# Altium integrated library Capacitor - Ceramic - Sumsung.IntLib: 1421 symbols (part 22 of 22)
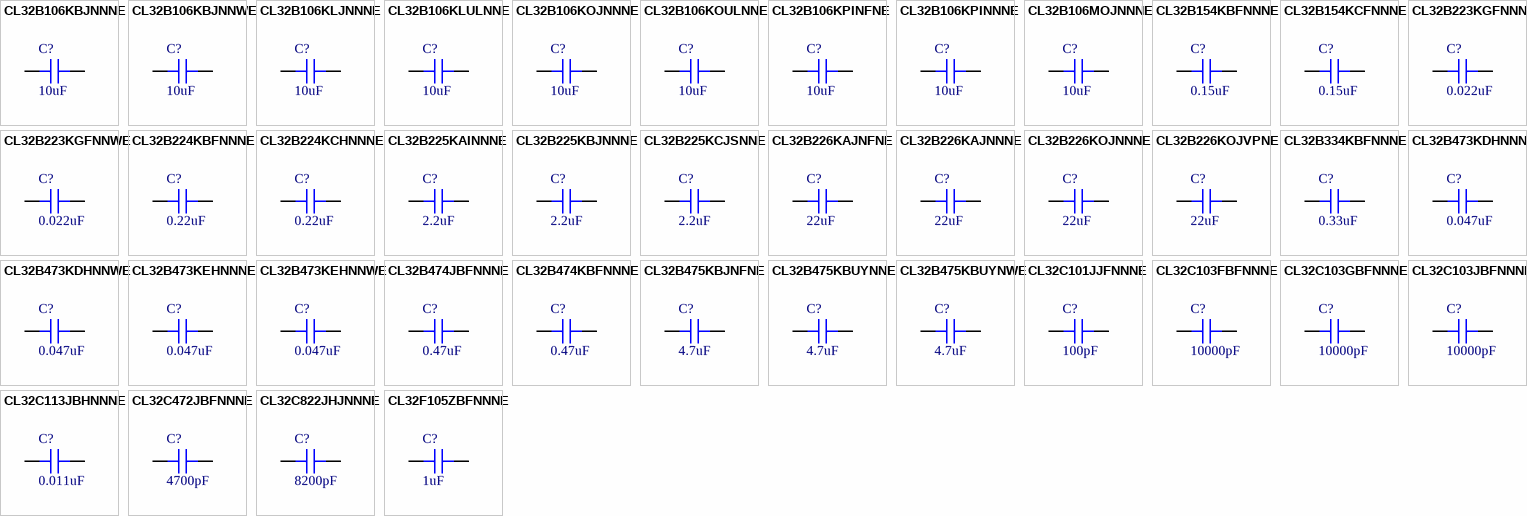
[diagram p56: symbols CL32B106KBJNNNE to CL32F105ZBFNNNE]

## CL32B475KBJNFNE
designator C?, comment 4.7uF
CAP CER 4.7UF 50V X7R 1210; Part Number: CL32B475KBJNFNE; Manufacturer: Samsung Electro-Mechanics America, Inc.; TemperatureRange: -55C ~ 125C; Tolerance: 10%; Value: 4.7uF; PartId: 19353; Supplier 1: Digi-Key; Supplier Part Number 1: 1276-3397-2-ND; ComponentLink1Description: Datasheet; ComponentLink1URL: http://www.samsungsem.com/kr/front/downloadcms.do?path=/kr/support/product-search/mlcc/__icsFiles/afieldfile/2014/11/05&fileName=C_CL32B475KBJNFNE.pdf; ComponentLink2Description: Digi-Key Listing; ComponentLink2URL: https://www.digikey.com/product-detail/en/samsung-electro-mechanics-america-inc/CL32B475KBJNFNE/1276-3397-2-ND/3889055; TemperatureCoefficient: X7R; Voltage: 50V; Price: 0.2813; Device Package: 1210 (3225 Metric)
footprint CAP 1210/3225 - 2.8MM
pins: 1, 2

## CL32B475KBUYNNE
designator C?, comment 4.7uF
CAP CER 4.7UF 50V X7R 1210; Part Number: CL32B475KBUYNNE; Manufacturer: Samsung Electro-Mechanics America, Inc.; TemperatureRange: -55C ~ 125C; Tolerance: 10%; Value: 4.7uF; PartId: 18557; Supplier 1: Digi-Key; Supplier Part Number 1: 1276-1292-2-ND; ComponentLink1Description: Datasheet; ComponentLink1URL: //media.digikey.com/pdf/Data%20Sheets/Samsung%20PDFs/CL32B475KBUYNNE_Spec.pdf; ComponentLink2Description: Digi-Key Listing; ComponentLink2URL: https://www.digikey.com/product-detail/en/samsung-electro-mechanics-america-inc/CL32B475KBUYNNE/1276-1292-2-ND/3886950; TemperatureCoefficient: X7R; Voltage: 50V; Price: 0.1618; Device Package: 1210 (3225 Metric)
footprint CAP 1210/3225 - 2.0MM
pins: 1, 2

## CL32B475KBUYNWE
designator C?, comment 4.7uF
CAP CER 4.7UF 50V X7R 1210; Part Number: CL32B475KBUYNWE; Manufacturer: Samsung Electro-Mechanics America, Inc.; TemperatureRange: -55C ~ 125C; Tolerance: 10%; Value: 4.7uF; PartId: 18588; Supplier 1: Digi-Key; Supplier Part Number 1: 1276-3343-2-ND; ComponentLink1Description: Datasheet; ComponentLink1URL: //media.digikey.com/pdf/Data%20Sheets/Samsung%20PDFs/MLCC_Catalog_2015.pdf; ComponentLink2Description: Digi-Key Listing; ComponentLink2URL: https://www.digikey.com/product-detail/en/samsung-electro-mechanics-america-inc/CL32B475KBUYNWE/1276-3343-2-ND/3889001; TemperatureCoefficient: X7R; Voltage: 50V; Price: 0.1718; Device Package: 1210 (3225 Metric)
footprint CAP 1210/3225 - 2.0MM
pins: 1, 2

## CL32C101JJFNNNE
designator C?, comment 100pF
CAP CER 100PF 2KV NP0 1210; Part Number: CL32C101JJFNNNE; Manufacturer: Samsung Electro-Mechanics America, Inc.; TemperatureRange: -55C ~ 125C; TemperatureCoefficient: C0G, NP0; Tolerance: 5%; Voltage: 2000V (2kV); Value: 100pF; PartId: 18326; Supplier 1: Digi-Key; Supplier Part Number 1: 1276-3344-2-ND; ComponentLink1Description: Datasheet; ComponentLink1URL: http://www.samsungsem.com/kr/support/product-search/mlcc/__icsFiles/afieldfile/2016/08/18/S_CL32C101JJFNNNE.pdf; ComponentLink2Description: Digi-Key Listing; ComponentLink2URL: https://www.digikey.com/product-detail/en/samsung-electro-mechanics-america-inc/CL32C101JJFNNNE/1276-3344-2-ND/3889002; Price: 0.2281; Device Package: 1210 (3225 Metric)
footprint CAP 1210/3225 - 1.6MM
pins: 1, 2

## CL32C103FBFNNNE
designator C?, comment 10000pF
CAP CER 10000PF 50V NP0 1210; Part Number: CL32C103FBFNNNE; Manufacturer: Samsung Electro-Mechanics America, Inc.; TemperatureRange: -55C ~ 125C; TemperatureCoefficient: C0G, NP0; Tolerance: 1%; Value: 10000pF; PartId: 18367; Supplier 1: Digi-Key; Supplier Part Number 1: 1276-3345-2-ND; ComponentLink1Description: Datasheet; ComponentLink1URL: http://www.samsungsem.com/kr/support/product-search/mlcc/__icsFiles/afieldfile/2016/08/18/S_CL32C103FBFNNNE.pdf; ComponentLink2Description: Digi-Key Listing; ComponentLink2URL: https://www.digikey.com/product-detail/en/samsung-electro-mechanics-america-inc/CL32C103FBFNNNE/1276-3345-2-ND/3889003; Voltage: 50V; Price: 0.9732; Device Package: 1210 (3225 Metric)
footprint CAP 1210/3225 - 1.6MM
pins: 1, 2

## CL32C103GBFNNNE
designator C?, comment 10000pF
CAP CER 10000PF 50V NP0 1210; Part Number: CL32C103GBFNNNE; Manufacturer: Samsung Electro-Mechanics America, Inc.; TemperatureRange: -55C ~ 125C; TemperatureCoefficient: C0G, NP0; Tolerance: 2%; Value: 10000pF; PartId: 18368; Supplier 1: Digi-Key; Supplier Part Number 1: 1276-3346-2-ND; ComponentLink1Description: Datasheet; ComponentLink1URL: http://www.samsungsem.com/kr/support/product-search/mlcc/__icsFiles/afieldfile/2016/08/18/S_CL32C103GBFNNNE.pdf; ComponentLink2Description: Digi-Key Listing; ComponentLink2URL: https://www.digikey.com/product-detail/en/samsung-electro-mechanics-america-inc/CL32C103GBFNNNE/1276-3346-2-ND/3889004; Voltage: 50V; Price: 0.9881; Device Package: 1210 (3225 Metric)
footprint CAP 1210/3225 - 1.6MM
pins: 1, 2

## CL32C103JBFNNNE
designator C?, comment 10000pF
CAP CER 10000PF 50V NP0 1210; Part Number: CL32C103JBFNNNE; Manufacturer: Samsung Electro-Mechanics America, Inc.; TemperatureRange: -55C ~ 125C; TemperatureCoefficient: C0G, NP0; Tolerance: 5%; Value: 10000pF; PartId: 18328; Supplier 1: Digi-Key; Supplier Part Number 1: 1276-3347-2-ND; ComponentLink1Description: Datasheet; ComponentLink1URL: http://www.samsungsem.com/kr/support/product-search/mlcc/__icsFiles/afieldfile/2016/08/18/S_CL32C103JBFNNNE.pdf; ComponentLink2Description: Digi-Key Listing; ComponentLink2URL: https://www.digikey.com/product-detail/en/samsung-electro-mechanics-america-inc/CL32C103JBFNNNE/1276-3347-2-ND/3889005; Voltage: 50V; Price: 0.2975; Device Package: 1210 (3225 Metric)
footprint CAP 1210/3225 - 1.6MM
pins: 1, 2

## CL32C113JBHNNNE
designator C?, comment 0.011uF
CAP CER 0.011UF 50V NP0 1210; Part Number: CL32C113JBHNNNE; Manufacturer: Samsung Electro-Mechanics America, Inc.; TemperatureRange: -55C ~ 125C; TemperatureCoefficient: C0G, NP0; Tolerance: 5%; Value: 0.011uF; PartId: 18436; Supplier 1: Digi-Key; Supplier Part Number 1: 1276-3348-2-ND; ComponentLink1Description: Datasheet; ComponentLink1URL: //media.digikey.com/pdf/Data%20Sheets/Samsung%20PDFs/MLCC_Catalog_2015.pdf; ComponentLink2Description: Digi-Key Listing; ComponentLink2URL: https://www.digikey.com/product-detail/en/samsung-electro-mechanics-america-inc/CL32C113JBHNNNE/1276-3348-2-ND/3889006; Voltage: 50V; Price: 0.1573; Device Package: 1210 (3225 Metric)
footprint CAP 1210/3225 - 1.8MM
pins: 1, 2

## CL32C472JBFNNNE
designator C?, comment 4700pF
CAP CER 4700PF 50V NP0 1210; Part Number: CL32C472JBFNNNE; Manufacturer: Samsung Electro-Mechanics America, Inc.; TemperatureRange: -55C ~ 125C; TemperatureCoefficient: C0G, NP0; Tolerance: 5%; Value: 4700pF; PartId: 18338; Supplier 1: Digi-Key; Supplier Part Number 1: 1276-3351-2-ND; ComponentLink1Description: Datasheet; ComponentLink1URL: http://www.samsungsem.com/kr/support/product-search/mlcc/__icsFiles/afieldfile/2016/08/18/S_CL32C472JBFNNNE.pdf; ComponentLink2Description: Digi-Key Listing; ComponentLink2URL: https://www.digikey.com/product-detail/en/samsung-electro-mechanics-america-inc/CL32C472JBFNNNE/1276-3351-2-ND/3889009; Voltage: 50V; Price: 0.1757; Device Package: 1210 (3225 Metric)
footprint CAP 1210/3225 - 1.6MM
pins: 1, 2

## CL32C822JHJNNNE
designator C?, comment 8200pF
CAP CER 8200PF 630V NP0 1210; Part Number: CL32C822JHJNNNE; Manufacturer: Samsung Electro-Mechanics America, Inc.; TemperatureRange: -55C ~ 125C; TemperatureCoefficient: C0G, NP0; Tolerance: 5%; Value: 8200pF; PartId: 19363; Supplier 1: Digi-Key; Supplier Part Number 1: 1276-3398-2-ND; ComponentLink1Description: Datasheet; ComponentLink1URL: //media.digikey.com/pdf/Data%20Sheets/Samsung%20PDFs/MLCC_Catalog_2015.pdf; ComponentLink2Description: Digi-Key Listing; ComponentLink2URL: https://www.digikey.com/product-detail/en/samsung-electro-mechanics-america-inc/CL32C822JHJNNNE/1276-3398-2-ND/3889056; Voltage: 630V; Price: 0.3719; Device Package: 1210 (3225 Metric)
footprint CAP 1210/3225 - 2.8MM
pins: 1, 2

## CL32F105ZBFNNNE
designator C?, comment 1uF
CAP CER 1UF 50V Y5V 1210; Part Number: CL32F105ZBFNNNE; Manufacturer: Samsung Electro-Mechanics America, Inc.; TemperatureRange: -30C ~ 85C; TemperatureCoefficient: Y5V (F); Tolerance: -20%, +80%; Value: 1uF; PartId: 18293; Supplier 1: Digi-Key; Supplier Part Number 1: 1276-3352-2-ND; ComponentLink1Description: Datasheet; ComponentLink1URL: //media.digikey.com/pdf/Data%20Sheets/Samsung%20PDFs/MLCC_Catalog_2015.pdf; ComponentLink2Description: Digi-Key Listing; ComponentLink2URL: https://www.digikey.com/product-detail/en/samsung-electro-mechanics-america-inc/CL32F105ZBFNNNE/1276-3352-2-ND/3889010; Voltage: 50V; Price: 0.0613; Device Package: 1210 (3225 Metric)
footprint CAP 1210/3225 - 1.6MM
pins: 1, 2

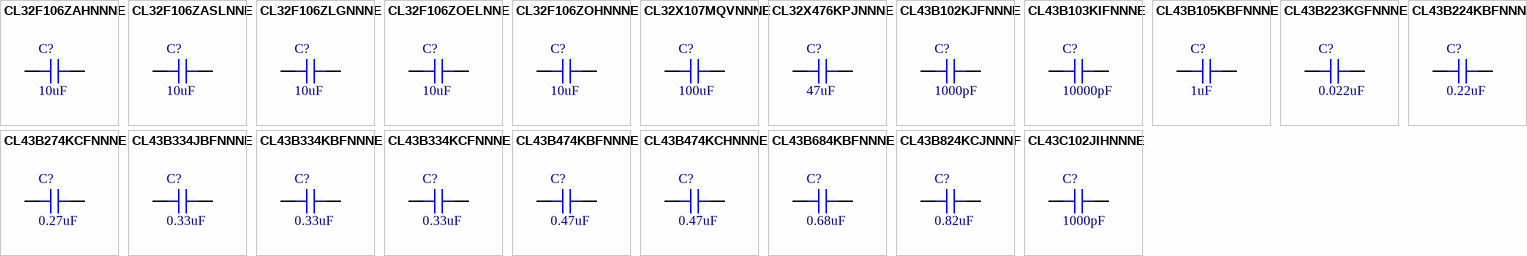
[diagram p35: symbols CL32F106ZAHNNNE to CL43C102JIHNNNE]

## CL32F106ZAHNNNE
designator C?, comment 10uF
CAP CER 10UF 25V Y5V 1210; Part Number: CL32F106ZAHNNNE; Manufacturer: Samsung Electro-Mechanics America, Inc.; TemperatureRange: -30C ~ 85C; TemperatureCoefficient: Y5V (F); Tolerance: -20%, +80%; Value: 10uF; PartId: 18430; Supplier 1: Digi-Key; Supplier Part Number 1: 1276-2885-2-ND; ComponentLink1Description: Datasheet; ComponentLink1URL: //media.digikey.com/pdf/Data%20Sheets/Samsung%20PDFs/CL32F106ZAHNNNE_Spec.pdf; ComponentLink2Description: Digi-Key Listing; ComponentLink2URL: https://www.digikey.com/product-detail/en/samsung-electro-mechanics-america-inc/CL32F106ZAHNNNE/1276-2885-2-ND/3888543; Voltage: 25V; Price: 0.0993; Device Package: 1210 (3225 Metric)
footprint CAP 1210/3225 - 1.8MM
pins: 1, 2

## CL32F106ZASLNNE
designator C?, comment 10uF
CAP CER 10UF 25V Y5V 1210; Part Number: CL32F106ZASLNNE; Manufacturer: Samsung Electro-Mechanics America, Inc.; TemperatureRange: -30C ~ 85C; TemperatureCoefficient: Y5V (F); Tolerance: -20%, +80%; Value: 10uF; PartId: 18369; Supplier 1: Digi-Key; Supplier Part Number 1: 1276-3353-2-ND; ComponentLink1Description: Datasheet; ComponentLink1URL: //media.digikey.com/pdf/Data%20Sheets/Samsung%20PDFs/MLCC_Catalog_2015.pdf; ComponentLink2Description: Digi-Key Listing; ComponentLink2URL: https://www.digikey.com/product-detail/en/samsung-electro-mechanics-america-inc/CL32F106ZASLNNE/1276-3353-2-ND/3889011; Voltage: 25V; Price: 0.0993; Device Package: 1210 (3225 Metric)
footprint CAP 1210/3225 - 1.6MM
pins: 1, 2

## CL32F106ZLGNNNE
designator C?, comment 10uF
CAP CER 10UF 35V Y5V 1210; Part Number: CL32F106ZLGNNNE; Manufacturer: Samsung Electro-Mechanics America, Inc.; TemperatureRange: -30C ~ 85C; TemperatureCoefficient: Y5V (F); Tolerance: -20%, +80%; Value: 10uF; PartId: 18314; Supplier 1: Digi-Key; Supplier Part Number 1: 1276-3354-2-ND; ComponentLink1Description: Datasheet; ComponentLink1URL: //media.digikey.com/pdf/Data%20Sheets/Samsung%20PDFs/MLCC_Catalog_2015.pdf; ComponentLink2Description: Digi-Key Listing; ComponentLink2URL: https://www.digikey.com/product-detail/en/samsung-electro-mechanics-america-inc/CL32F106ZLGNNNE/1276-3354-2-ND/3889012; Voltage: 35V; Price: 0.1137; Device Package: 1210 (3225 Metric)
footprint CAP 1210/3225 - 1.6MM
pins: 1, 2

## CL32F106ZOELNNE
designator C?, comment 10uF
CAP CER 10UF 16V Y5V 1210; Part Number: CL32F106ZOELNNE; Manufacturer: Samsung Electro-Mechanics America, Inc.; TemperatureRange: -30C ~ 85C; TemperatureCoefficient: Y5V (F); Tolerance: -20%, +80%; Value: 10uF; PartId: 18139; Supplier 1: Digi-Key; Supplier Part Number 1: 1276-3356-2-ND; ComponentLink1Description: Datasheet; ComponentLink1URL: http://www.samsungsem.com/kr/front/downloadcms.do?path=/kr/support/product-search/mlcc/__icsFiles/afieldfile/2014/11/05&fileName=C_CL32F106ZOELNNE.pdf; ComponentLink2Description: Digi-Key Listing; ComponentLink2URL: https://www.digikey.com/product-detail/en/samsung-electro-mechanics-america-inc/CL32F106ZOELNNE/1276-3356-2-ND/3889014; Voltage: 16V; Price: 0.1506; Device Package: 1210 (3225 Metric)
footprint CAP 1210/3225 - 1.2MM
pins: 1, 2

## CL32F106ZOHNNNE
designator C?, comment 10uF
CAP CER 10UF 16V Y5V 1210; Part Number: CL32F106ZOHNNNE; Manufacturer: Samsung Electro-Mechanics America, Inc.; TemperatureRange: -30C ~ 85C; TemperatureCoefficient: Y5V (F); Tolerance: -20%, +80%; Value: 10uF; PartId: 18431; Supplier 1: Digi-Key; Supplier Part Number 1: 1276-2865-2-ND; ComponentLink1Description: Datasheet; ComponentLink1URL: //media.digikey.com/pdf/Data%20Sheets/Samsung%20PDFs/CL32F106ZOHNNNE_Spec.pdf; ComponentLink2Description: Digi-Key Listing; ComponentLink2URL: https://www.digikey.com/product-detail/en/samsung-electro-mechanics-america-inc/CL32F106ZOHNNNE/1276-2865-2-ND/3888523; Voltage: 16V; Price: 0.0993; Device Package: 1210 (3225 Metric)
footprint CAP 1210/3225 - 1.8MM
pins: 1, 2

## CL32X107MQVNNNE
designator C?, comment 100uF
CAP CER 100UF 6.3V X6S 1210; Part Number: CL32X107MQVNNNE; Manufacturer: Samsung Electro-Mechanics America, Inc.; TemperatureRange: -55C ~ 105C; Tolerance: 20%; Value: 100uF; PartId: 19138; Supplier 1: Digi-Key; Supplier Part Number 1: 1276-3399-2-ND; ComponentLink1Description: Datasheet; ComponentLink1URL: http://www.samsungsem.com/kr/front/downloadcms.do?path=/kr/support/product-search/mlcc/__icsFiles/afieldfile/2014/11/05&fileName=C_CL32X107MQVNNNE.pdf; ComponentLink2Description: Digi-Key Listing; ComponentLink2URL: https://www.digikey.com/product-detail/en/samsung-electro-mechanics-america-inc/CL32X107MQVNNNE/1276-3399-2-ND/3889057; TemperatureCoefficient: X6S; Voltage: 6.3V; Price: 0.5609; Device Package: 1210 (3225 Metric)
footprint CAP 1210/3225 - 2.8MM
pins: 1, 2

## CL32X476KPJNNNE
designator C?, comment 47uF
CAP CER 47UF 10V X6S 1210; Part Number: CL32X476KPJNNNE; Manufacturer: Samsung Electro-Mechanics America, Inc.; TemperatureRange: -55C ~ 105C; Tolerance: 10%; Value: 47uF; PartId: 19302; Supplier 1: Digi-Key; Supplier Part Number 1: 1276-3400-2-ND; ComponentLink1Description: Datasheet; ComponentLink1URL: http://www.samsungsem.com/kr/front/downloadcms.do?path=/kr/support/product-search/mlcc/__icsFiles/afieldfile/2014/11/05&fileName=C_CL32X476KPJNNNE.pdf; ComponentLink2Description: Digi-Key Listing; ComponentLink2URL: https://www.digikey.com/product-detail/en/samsung-electro-mechanics-america-inc/CL32X476KPJNNNE/1276-3400-2-ND/3889058; TemperatureCoefficient: X6S; Voltage: 10V; Price: 0.6843; Device Package: 1210 (3225 Metric)
footprint CAP 1210/3225 - 2.8MM
pins: 1, 2

## CL43B102KJFNNNE
designator C?, comment 1000pF
CAP CER 1000PF 2KV X7R 1812; Part Number: CL43B102KJFNNNE; Manufacturer: Samsung Electro-Mechanics America, Inc.; TemperatureRange: -55C ~ 125C; Tolerance: 10%; Voltage: 2000V (2kV); Value: 1000pF; PartId: 21711; Supplier 1: Digi-Key; Supplier Part Number 1: 1276-3404-2-ND; ComponentLink1Description: Datasheet; ComponentLink1URL: http://www.samsungsem.com/kr/support/library/product-catalog/__icsFiles/afieldfile/2016/09/27/MLCC.pdf; ComponentLink2Description: Digi-Key Listing; ComponentLink2URL: https://www.digikey.com/product-detail/en/samsung-electro-mechanics-america-inc/CL43B102KJFNNNE/1276-3404-2-ND/3889062; TemperatureCoefficient: X7R; Price: 0.3184; Device Package: 1812 (4532 Metric)
footprint CAP 1812/4532 1.5MM
pins: 1, 2

## CL43B103KIFNNNE
designator C?, comment 10000pF
CAP CER 10000PF 1KV X7R 1812; Part Number: CL43B103KIFNNNE; Manufacturer: Samsung Electro-Mechanics America, Inc.; TemperatureRange: -55C ~ 125C; Tolerance: 10%; Voltage: 1000V (1kV); Value: 10000pF; PartId: 21709; Supplier 1: Digi-Key; Supplier Part Number 1: 1276-3405-2-ND; ComponentLink1Description: Datasheet; ComponentLink1URL: http://www.samsungsem.com/kr/front/downloadcms.do?path=/kr/support/product-search/mlcc/__icsFiles/afieldfile/2014/11/05&fileName=C_CL43B103KIFNNNE.pdf; ComponentLink2Description: Digi-Key Listing; ComponentLink2URL: https://www.digikey.com/product-detail/en/samsung-electro-mechanics-america-inc/CL43B103KIFNNNE/1276-3405-2-ND/3889063; TemperatureCoefficient: X7R; Price: 0.3184; Device Package: 1812 (4532 Metric)
footprint CAP 1812/4532 1.5MM
pins: 1, 2

## CL43B105KBFNNNE
designator C?, comment 1uF
CAP CER 1UF 50V X7R 1812; Part Number: CL43B105KBFNNNE; Manufacturer: Samsung Electro-Mechanics America, Inc.; TemperatureRange: -55C ~ 125C; Tolerance: 10%; Value: 1uF; PartId: 21714; Supplier 1: Digi-Key; Supplier Part Number 1: 1276-3359-2-ND; ComponentLink1Description: Datasheet; ComponentLink1URL: http://www.samsungsem.com/kr/support/library/product-catalog/__icsFiles/afieldfile/2016/09/27/MLCC.pdf; ComponentLink2Description: Digi-Key Listing; ComponentLink2URL: https://www.digikey.com/product-detail/en/samsung-electro-mechanics-america-inc/CL43B105KBFNNNE/1276-3359-2-ND/3889017; TemperatureCoefficient: X7R; Voltage: 50V; Price: 0.3012; Device Package: 1812 (4532 Metric)
footprint CAP 1812/4532 1.5MM
pins: 1, 2

## CL43B223KGFNNNE
designator C?, comment 0.022uF
CAP CER 0.022UF 500V X7R 1812; Part Number: CL43B223KGFNNNE; Manufacturer: Samsung Electro-Mechanics America, Inc.; TemperatureRange: -55C ~ 125C; Tolerance: 10%; Value: 0.022uF; PartId: 21710; Supplier 1: Digi-Key; Supplier Part Number 1: 1276-3411-2-ND; ComponentLink1Description: Datasheet; ComponentLink1URL: http://www.samsungsem.com/kr/support/library/product-catalog/__icsFiles/afieldfile/2016/09/27/MLCC.pdf; ComponentLink2Description: Digi-Key Listing; ComponentLink2URL: https://www.digikey.com/product-detail/en/samsung-electro-mechanics-america-inc/CL43B223KGFNNNE/1276-3411-2-ND/3889069; TemperatureCoefficient: X7R; Voltage: 500V; Price: 0.3184; Device Package: 1812 (4532 Metric)
footprint CAP 1812/4532 1.5MM
pins: 1, 2

## CL43B224KBFNNNE
designator C?, comment 0.22uF
CAP CER 0.22UF 50V X7R 1812; Part Number: CL43B224KBFNNNE; Manufacturer: Samsung Electro-Mechanics America, Inc.; TemperatureRange: -55C ~ 125C; Tolerance: 10%; Value: 0.22uF; PartId: 21726; Supplier 1: Digi-Key; Supplier Part Number 1: 1276-3412-2-ND; ComponentLink1Description: Datasheet; ComponentLink1URL: http://www.samsungsem.com/kr/support/library/product-catalog/__icsFiles/afieldfile/2016/09/27/MLCC.pdf; ComponentLink2Description: Digi-Key Listing; ComponentLink2URL: https://www.digikey.com/product-detail/en/samsung-electro-mechanics-america-inc/CL43B224KBFNNNE/1276-3412-2-ND/3889070; TemperatureCoefficient: X7R; Voltage: 50V; Price: 0.2091; Device Package: 1812 (4532 Metric)
footprint CAP 1812/4532 1.5MM
pins: 1, 2

## CL43B274KCFNNNE
designator C?, comment 0.27uF
CAP CER 0.27UF 100V X7R 1812; Part Number: CL43B274KCFNNNE; Manufacturer: Samsung Electro-Mechanics America, Inc.; TemperatureRange: -55C ~ 125C; Tolerance: 10%; Value: 0.27uF; PartId: 21718; Supplier 1: Digi-Key; Supplier Part Number 1: 1276-3413-2-ND; ComponentLink1Description: Datasheet; ComponentLink1URL: http://www.samsungsem.com/kr/support/library/product-catalog/__icsFiles/afieldfile/2016/09/27/MLCC.pdf; ComponentLink2Description: Digi-Key Listing; ComponentLink2URL: https://www.digikey.com/product-detail/en/samsung-electro-mechanics-america-inc/CL43B274KCFNNNE/1276-3413-2-ND/3889071; TemperatureCoefficient: X7R; Voltage: 100V; Price: 0.256; Device Package: 1812 (4532 Metric)
footprint CAP 1812/4532 1.5MM
pins: 1, 2

## CL43B334JBFNNNE
designator C?, comment 0.33uF
CAP CER 0.33UF 50V X7R 1812; Part Number: CL43B334JBFNNNE; Manufacturer: Samsung Electro-Mechanics America, Inc.; TemperatureRange: -55C ~ 125C; Tolerance: 5%; Value: 0.33uF; PartId: 21707; Supplier 1: Digi-Key; Supplier Part Number 1: 1276-3414-2-ND; ComponentLink1Description: Datasheet; ComponentLink1URL: http://www.samsungsem.com/kr/support/library/product-catalog/__icsFiles/afieldfile/2016/09/27/MLCC.pdf; ComponentLink2Description: Digi-Key Listing; ComponentLink2URL: https://www.digikey.com/product-detail/en/samsung-electro-mechanics-america-inc/CL43B334JBFNNNE/1276-3414-2-ND/3889072; TemperatureCoefficient: X7R; Voltage: 50V; Price: 0.3239; Device Package: 1812 (4532 Metric)
footprint CAP 1812/4532 1.5MM
pins: 1, 2

## CL43B334KBFNNNE
designator C?, comment 0.33uF
CAP CER 0.33UF 50V X7R 1812; Part Number: CL43B334KBFNNNE; Manufacturer: Samsung Electro-Mechanics America, Inc.; TemperatureRange: -55C ~ 125C; Tolerance: 10%; Value: 0.33uF; PartId: 21722; Supplier 1: Digi-Key; Supplier Part Number 1: 1276-3415-2-ND; ComponentLink1Description: Datasheet; ComponentLink1URL: http://www.samsungsem.com/kr/support/library/product-catalog/__icsFiles/afieldfile/2016/09/27/MLCC.pdf; ComponentLink2Description: Digi-Key Listing; ComponentLink2URL: https://www.digikey.com/product-detail/en/samsung-electro-mechanics-america-inc/CL43B334KBFNNNE/1276-3415-2-ND/3889073; TemperatureCoefficient: X7R; Voltage: 50V; Price: 0.2224; Device Package: 1812 (4532 Metric)
footprint CAP 1812/4532 1.5MM
pins: 1, 2

## CL43B334KCFNNNE
designator C?, comment 0.33uF
CAP CER 0.33UF 100V X7R 1812; Part Number: CL43B334KCFNNNE; Manufacturer: Samsung Electro-Mechanics America, Inc.; TemperatureRange: -55C ~ 125C; Tolerance: 10%; Value: 0.33uF; PartId: 21719; Supplier 1: Digi-Key; Supplier Part Number 1: 1276-3416-2-ND; ComponentLink1Description: Datasheet; ComponentLink1URL: http://www.samsungsem.com/kr/support/library/product-catalog/__icsFiles/afieldfile/2016/09/27/MLCC.pdf; ComponentLink2Description: Digi-Key Listing; ComponentLink2URL: https://www.digikey.com/product-detail/en/samsung-electro-mechanics-america-inc/CL43B334KCFNNNE/1276-3416-2-ND/3889074; TemperatureCoefficient: X7R; Voltage: 100V; Price: 0.24; Device Package: 1812 (4532 Metric)
footprint CAP 1812/4532 1.5MM
pins: 1, 2

## CL43B474KBFNNNE
designator C?, comment 0.47uF
CAP CER 0.47UF 50V X7R 1812; Part Number: CL43B474KBFNNNE; Manufacturer: Samsung Electro-Mechanics America, Inc.; TemperatureRange: -55C ~ 125C; Tolerance: 10%; Value: 0.47uF; PartId: 21716; Supplier 1: Digi-Key; Supplier Part Number 1: 1276-3417-2-ND; ComponentLink1Description: Datasheet; ComponentLink1URL: http://www.samsungsem.com/kr/support/library/product-catalog/__icsFiles/afieldfile/2016/09/27/MLCC.pdf; ComponentLink2Description: Digi-Key Listing; ComponentLink2URL: https://www.digikey.com/product-detail/en/samsung-electro-mechanics-america-inc/CL43B474KBFNNNE/1276-3417-2-ND/3889075; TemperatureCoefficient: X7R; Voltage: 50V; Price: 0.2875; Device Package: 1812 (4532 Metric)
footprint CAP 1812/4532 1.5MM
pins: 1, 2

## CL43B474KCHNNNE
designator C?, comment 0.47uF
CAP CER 0.47UF 100V X7R 1812; Part Number: CL43B474KCHNNNE; Manufacturer: Samsung Electro-Mechanics America, Inc.; TemperatureRange: -55C ~ 125C; Tolerance: 10%; Value: 0.47uF; PartId: 21885; Supplier 1: Digi-Key; Supplier Part Number 1: 1276-3418-2-ND; ComponentLink1Description: Datasheet; ComponentLink1URL: http://www.samsungsem.com/kr/support/product-search/mlcc/__icsFiles/afieldfile/2016/08/18/S_CL43B474KCHNNNE.pdf; ComponentLink2Description: Digi-Key Listing; ComponentLink2URL: https://www.digikey.com/product-detail/en/samsung-electro-mechanics-america-inc/CL43B474KCHNNNE/1276-3418-2-ND/3889076; TemperatureCoefficient: X7R; Voltage: 100V; Price: 0.2386; Device Package: 1812 (4532 Metric)
footprint CAP 1812/4532 2.00MM
pins: 1, 2

## CL43B684KBFNNNE
designator C?, comment 0.68uF
CAP CER 0.68UF 50V X7R 1812; Part Number: CL43B684KBFNNNE; Manufacturer: Samsung Electro-Mechanics America, Inc.; TemperatureRange: -55C ~ 125C; Tolerance: 10%; Value: 0.68uF; PartId: 21706; Supplier 1: Digi-Key; Supplier Part Number 1: 1276-3420-2-ND; ComponentLink1Description: Datasheet; ComponentLink1URL: http://www.samsungsem.com/kr/support/library/product-catalog/__icsFiles/afieldfile/2016/09/27/MLCC.pdf; ComponentLink2Description: Digi-Key Listing; ComponentLink2URL: https://www.digikey.com/product-detail/en/samsung-electro-mechanics-america-inc/CL43B684KBFNNNE/1276-3420-2-ND/3889078; TemperatureCoefficient: X7R; Voltage: 50V; Price: 0.3405; Device Package: 1812 (4532 Metric)
footprint CAP 1812/4532 1.5MM
pins: 1, 2

## CL43B824KCJNNNF
designator C?, comment 0.82uF
CAP CER 0.82UF 100V X7R 1812; Part Number: CL43B824KCJNNNF; Manufacturer: Samsung Electro-Mechanics America, Inc.; TemperatureRange: -55C ~ 125C; Tolerance: 10%; Value: 0.82uF; PartId: 22269; Supplier 1: Digi-Key; Supplier Part Number 1: 1276-3421-2-ND; ComponentLink1Description: Datasheet; ComponentLink1URL: http://www.samsungsem.com/kr/support/library/product-catalog/__icsFiles/afieldfile/2016/09/27/MLCC.pdf; ComponentLink2Description: Digi-Key Listing; ComponentLink2URL: https://www.digikey.com/product-detail/en/samsung-electro-mechanics-america-inc/CL43B824KCJNNNF/1276-3421-2-ND/3889079; TemperatureCoefficient: X7R; Voltage: 100V; Price: 0.253; Device Package: 1812 (4532 Metric)
footprint CAP 1812/4532 2.8MM
pins: 1, 2

## CL43C102JIHNNNE
designator C?, comment 1000pF
CAP CER 1000PF 1KV NP0 1812; Part Number: CL43C102JIHNNNE; Manufacturer: Samsung Electro-Mechanics America, Inc.; TemperatureRange: -55C ~ 125C; TemperatureCoefficient: C0G, NP0; Tolerance: 5%; Voltage: 1000V (1kV); Value: 1000pF; PartId: 21904; Supplier 1: Digi-Key; Supplier Part Number 1: 1276-3422-2-ND; ComponentLink1Description: Datasheet; ComponentLink1URL: http://www.samsungsem.com/kr/support/product-search/mlcc/__icsFiles/afieldfile/2016/08/18/S_CL43C102JIHNNNE.pdf; ComponentLink2Description: Digi-Key Listing; ComponentLink2URL: https://www.digikey.com/product-detail/en/samsung-electro-mechanics-america-inc/CL43C102JIHNNNE/1276-3422-2-ND/3889080; Price: 0.2054; Device Package: 1812 (4532 Metric)
footprint CAP 1812/4532 2.00MM
pins: 1, 2